# Altium schematic symbol library Custom_Schematics.SchLib: 15 symbols
Pins are listed as number, name and electrical type; pins without a type are passive.

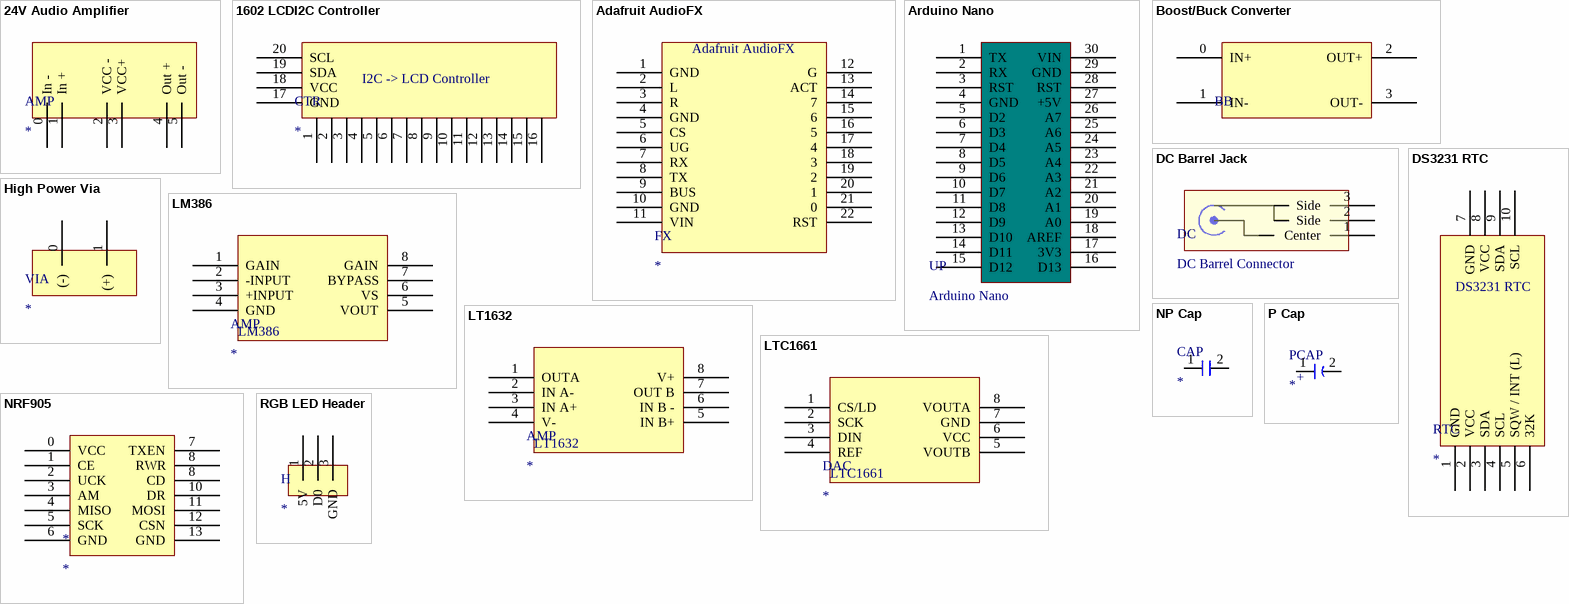
[diagram p0: symbols 24V Audio Amplifier to RGB LED Header]

## 24V Audio Amplifier
designator AMP
footprint 24V Amplifier
pins: 0 In -, 1 In +, 2 VCC -, 3 VCC+, 4 Out +, 5 Out -

## 1602 LCDI2C Controller
designator CTR
I can't believe this schematic isn't readily available. It is for the 1602-based I2C controller for Charecter LCDs
footprint I2C-LCD (Converter Board for I2C-LCD)
footprint I2C-LCD (Converter Board for I2C-LCD)
pins: 1, 2, 3, 4, 5, 6, 7, 8, 9, 10, 11, 12, 13, 14, 15, 16, 17 GND, 18 VCC, 19 SDA, 20 SCL
text: I2C -> LCD Controller

## Adafruit AudioFX
designator FX
footprint Adafruit AudioFX [2MB No Amp]
pins: 1 GND, 2 L, 3 R, 4 GND, 5 CS, 6 UG, 7 RX, 8 TX, 9 BUS, 10 GND, 11 VIN, 12 G, 13 ACT, 14 7, 15 6, 16 5, 17 4, 18 3, 19 2, 20 1, 21 0, 22 RST

## Arduino Nano
designator UP
footprint Arduino Nano
pins: 1 TX, 2 RX, 3 RST, 4 GND, 5 D2, 6 D3, 7 D4, 8 D5, 9 D6, 10 D7, 11 D8, 12 D9, 13 D10, 14 D11, 15 D12, 16 D13, 17 3V3, 18 AREF, 19 A0, 20 A1, 21 A2, 22 A3, 23 A4, 24 A5, 25 A6, 26 A7, 27 +5V, 28 RST, 29 GND, 30 VIN

## Boost/Buck Converter
designator BB  (value not drawn)
footprint Boost/Buck Converter
pins: 0 IN+, 1 IN-, 2 OUT+, 3 OUT-

## DC Barrel Jack
designator DC, comment DC Barrel Connector
footprint DC Barrel Jack
pins: 1 Center, 2 Side, 3 Side

## DS3231 RTC
designator RTC
footprint DS3231 RTC
pins: 1 GND, 2 VCC, 3 SDA, 4 SCL, 5 SQW / INT (L), 6 32K, 7 GND, 8 VCC, 9 SDA, 10 SCL

## High Power Via
designator VIA
footprint High Power Via
pins: 0 (-), 1 (+)

## LM386
designator AMP
footprint 8DIP
pins: 1 GAIN, 2 -INPUT, 3 +INPUT, 4 GND, 5 VOUT, 6 VS, 7 BYPASS, 8 GAIN

## LT1632
designator AMP
footprint 8DIP
pins: 1 OUTA, 2 IN A-, 3 IN A+, 4 V-, 5 IN B+, 6 IN B -, 7 OUT B, 8 V+

## LTC1661
designator DAC
footprint 8DIP
pins: 1 CS/LD, 2 SCK, 3 DIN, 4 REF, 5 VOUTB, 6 VCC, 7 GND, 8 VOUTA

## NP Cap
designator CAP
footprint NP Cap
footprint NP Cap - Small
pins: 1, 2

## NRF905
designator *
footprint NRF905
pins: 0 VCC, 1 CE, 2 UCK, 3 AM, 4 MISO, 5 SCK, 6 GND, 7 TXEN, 8 RWR, 8 CD, 10 DR, 11 MOSI, 12 CSN, 13 GND

## P Cap
designator PCAP
footprint P Cap
footprint P Cap - Small
pins: 1, 2
text: +

## RGB LED Header
designator H
footprint RGB LED Port
pins: 1 5V, 2 D0, 3 GND